# EAGLE library part 87264-24 (library untitled)
RECEPTACAL
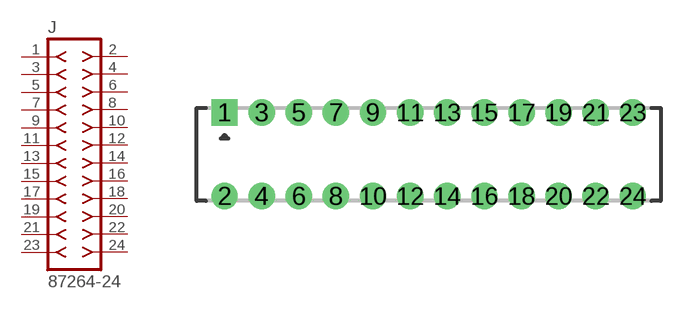
[diagram p213: symbol with the pads of 87264-24; footprint 87264-24]

Designator prefix J

## 87264-24  [87264-24]
1  1  pas
2  2  pas
3  3  pas
4  4  pas
5  5  pas
6  6  pas
7  7  pas
8  8  pas
9  9  pas
10  10  pas
11  11  pas
12  12  pas
13  13  pas
14  14  pas
15  15  pas
16  16  pas
17  17  pas
18  18  pas
19  19  pas
20  20  pas
21  21  pas
22  22  pas
23  23  pas
24  24  pas

## Footprint 87264-24 (pad centres in mm)
RECEPTACAL Dual Row, Side Entry
drill 0.914 square: 1 -11,2.25
drill 0.914 round: 2 -11,-2.25; 3 -9,2.25; 4 -9,-2.25; 5 -7,2.25; 6 -7,-2.25; 7 -5,2.25; 8 -5,-2.25; 9 -3,2.25; 10 -3,-2.25; 11 -1,2.25; 12 -1,-2.25; 13 1,2.25; 14 1,-2.25; 15 3,2.25; 16 3,-2.25; 17 5,2.25; 18 5,-2.25; 19 7,2.25; 20 7,-2.25; 21 9,2.25; 22 9,-2.25; 23 11,2.25; 24 11,-2.25